# Altium schematic symbol library CAP POL 1000uF RADIAL SMD.Schlib: 1 symbol
Pins are listed as number, name and electrical type; pins without a type are passive.

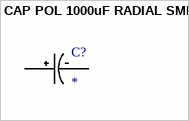
[diagram p0: symbol CAP POL 1000uF RADIAL SMD]

## CAP POL 1000uF RADIAL SMD
designator C?
1000µF 25V Aluminum Electrolytic Capacitors Radial, Can - SMD 5000 Hrs @ 105Â°C
pins: NEG, POS